# Altium footprint library Diode_SMD.PcbLib: 100 footprints (part 2 of 7)
Each footprint in its own frame and in the unit in brackets; x right, y up, seen from the top. Pads: shape width x height; smd on the part's side, far side on the other; paste and mask are expansions set on the pad; w line width, h text height; cw(c..) or ccw(c..) is an arc to the next point about the centre after c.
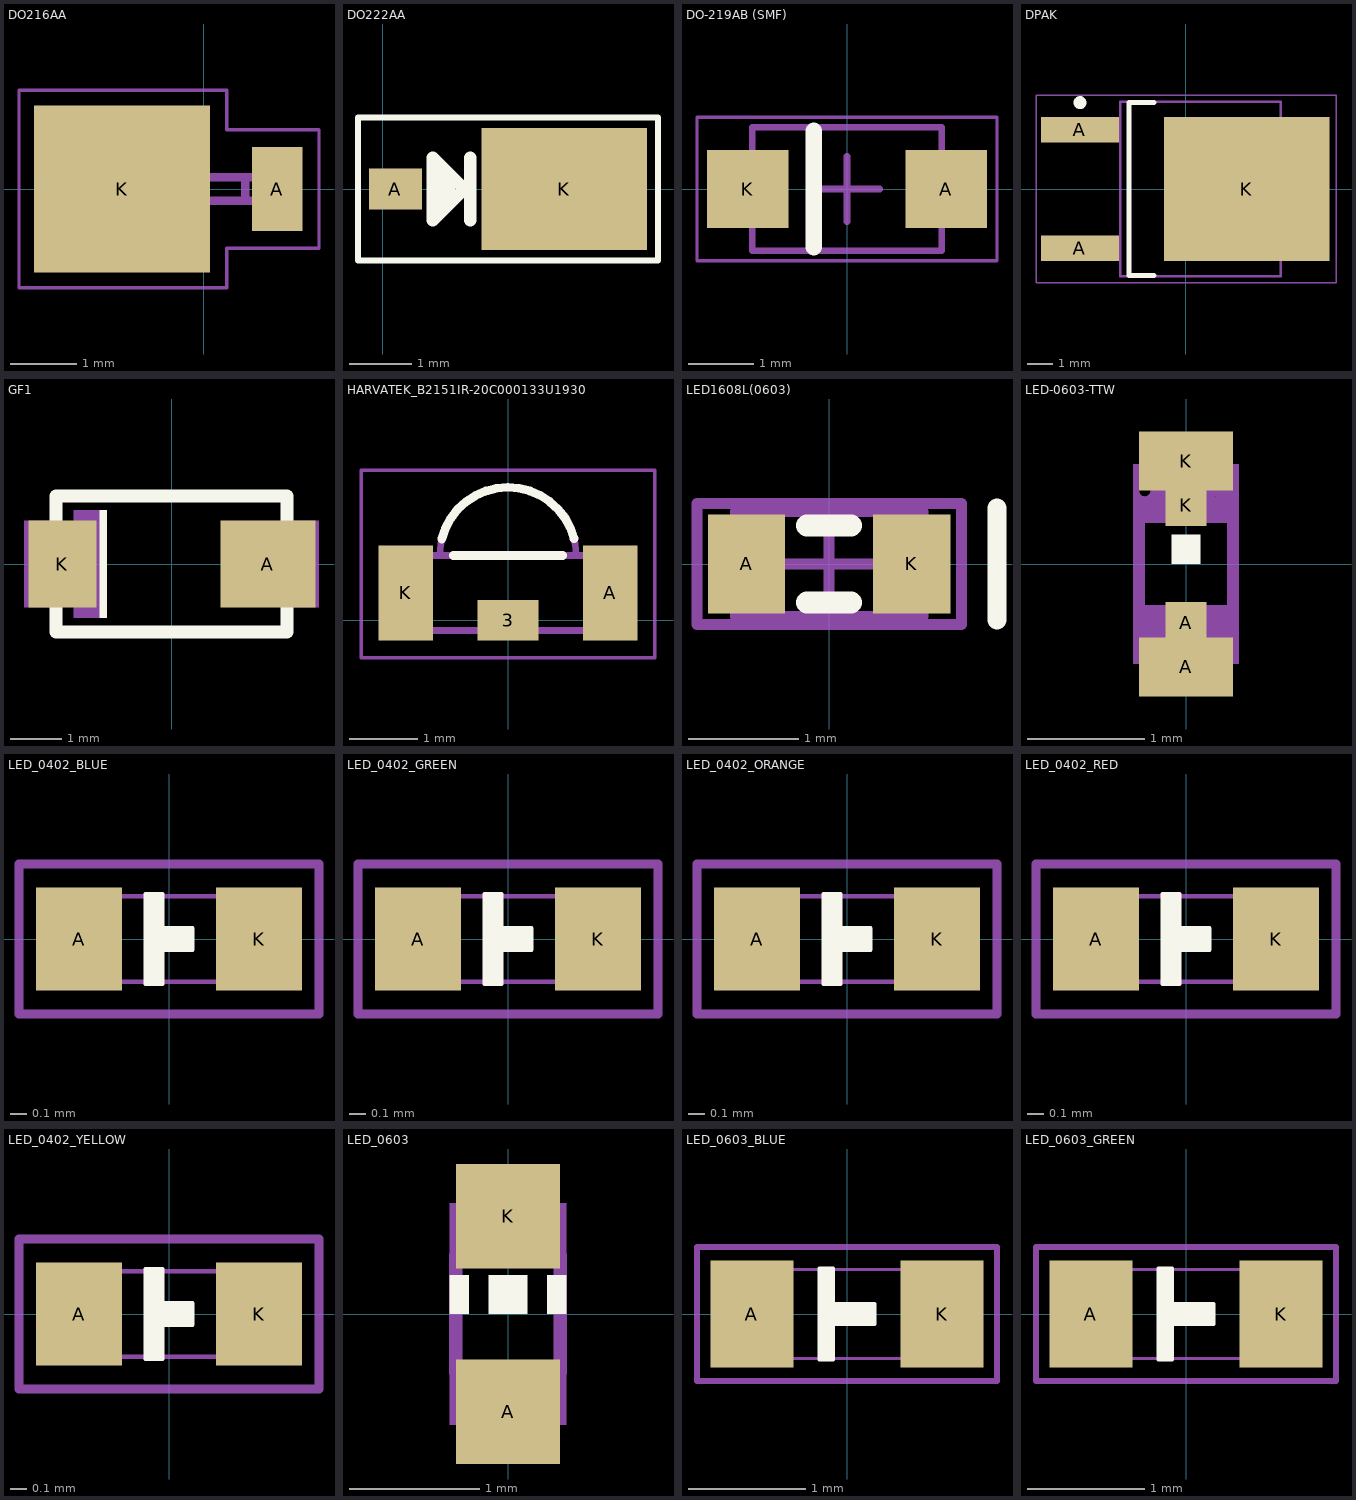
[diagram p1: the footprints below, top view; thin cyan lines are the x and y axes]

## DO216AA [mil]
pads (2):
  rect 30x50 smd: A(43.94,0)
  rect 105.12x100 smd: K(-48.62,0)
Mechanical 16:
  lines w5: -77.17,-16.73 -96.85,-16.73 -96.85,16.73 -77.17,16.73 ; -77.17,-16.73 -77.17,16.73 ; -77.17,-16.73 -77.17,-39.37 0,-39.37 0,-7.09 ; -77.17,16.73 -77.17,39.37 0,39.37 0,7.09 ; 0,-7.09 25,-7.09 ; 0,-7.09 0,7.09 ; 0,7.09 25,7.09 ; 25,-7.09 25,7.09 ; 25,-7.09 53.15,-7.09 53.15,7.09 25,7.09
Mechanical 27:
  lines w1.97: -110.24,-59.06 -110.24,59.06 13.78,59.06 13.78,35.43 68.9,35.43 68.9,-35.43 13.78,-35.43 13.78,-59.06 -110.24,-59.06
3D body "DO216AA.step": height 39.76, standoff 0, extent -95.05,-39.36 56.53,39.38

## DO222AA [mm] "DO216AA ST-MITE"
pads (2):
  rect 0.85x0.65 smd: A(0.2,0)
  rect 2.65x1.95 smd: K(2.9,0)
Top Overlay:
  lines w0.102: -0.4,-1.143 4.4,-1.143 4.4,1.143 -0.4,1.143 -0.4,-1.143
  lines w0.2: 0.9,-0.3 0.9,0.3 ; 1.05,-0.15 1.05,0.15 ; 1.4,-0.5 1.4,0.5 ; 0.8,-0.5 0.8,0.5 1.3,0 0.8,-0.5
3D body: height 0.7, standoff 0, extent 0.6,-0.25 0.725,0.25
3D body: height 0.7, standoff 0.5, extent 0.6,-0.25 1.363,0.25
3D body: height 0.2, standoff 0, extent -0.2,-0.25 0.6,0.25
3D body: height 0.2, standoff 0, extent 1.8,-0.9 4.1,0.9
3D body: height 1, standoff 0, extent 0.1,-0.95 3.9,0.95
3D body: height 0.5, standoff 0, extent 1.7,0.95 3.8,0.975
3D body: height 0.5, standoff 0, extent 1.7,-0.975 3.8,-0.95

## DO-219AB (SMF) [mm] "SODFL, 2-Leads, Body 1.80x3.70mm, IPC Medium Density"
height 1.08
pads (2):
  rect 1.25x1.2 smd: A(1.525,0) K(-1.525,0)
Top Overlay:
  lines w0.254: -0.508,-0.889 -0.508,0.889
Mechanical 13:
  lines w0.1: -1.45,-0.95 1.45,-0.95 1.45,0.95 -1.45,0.95 -1.45,-0.95
Mechanical 15:
  lines w0.05: -2.3,-1.1 2.3,-1.1 2.3,1.1 -2.3,1.1 -2.3,-1.1
  lines w0.1: -0.5,0 0.5,0 ; 0,-0.5 0,0.5
3D body "DO-219AB (SMF).step": height 1.08, standoff 0, extent -1.85,-0.95 1.85,0.95
3D body: height 1.09, standoff 0.09, extent -1.27,-0.762 -0.635,0.762

## DPAK [mm] "D-PAK, 3-Pads, Body 6.21x6.73mm (max), IPC Medium Density"
height 2.38
pads (3):
  rect 3x1 smd: A(-4.1,-2.29) A(-4.1,2.29)
  rect 6.4x5.55 smd: K(2.35,0)
Top Overlay:
  circle w0.25: c-4.1,3.34 r0.125
  lines w0.2: -1.25,-3.35 -2.2,-3.35 -2.2,3.35 -1.25,3.35
Mechanical 13:
  lines w0.1: -2.55,-3.375 3.67,-3.375 3.67,3.375 -2.55,3.375 -2.55,-3.375
Mechanical 15:
  lines w0.05: -5.8,-3.625 5.8,-3.625 5.8,3.625 -5.8,3.625 -5.8,-3.625
  lines w0.1: -0.5,0 0.5,0 ; 0,-0.5 0,0.5
3D body "DPAK.step": height 2.38, standoff 0, extent -4.6,-3.375 5.305,3.375

## GF1 [mm]
pads (2):
  rect 1.85x1.68 smd: A(1.87,0)
  rect 1.32x1.68 smd: K(-2.12,0)
Top Overlay:
  rectangle: -1.4,-1.05 -1.25,1.05
  lines w0.254: -2.24,-1.32 -2.24,1.32 2.24,1.32 2.24,-1.32 -2.24,-1.32
Mechanical 16:
  rectangle: -1.9,-1.05 -1.25,1.05
  rectangle: 2.34,-0.84 2.86,0.84
  rectangle: -2.86,-0.84 -2.32,0.84
3D body "User Library-DO-214BA.step": height 2.91, standoff -0.05, extent -2.625,-1.3 2.625,1.3

## HARVATEK_B2151IR-20C000133U1930 [mm] "2-SMD"
pads (3):
  rect 0.9x0.6 smd: 3(0,0)
  rect 0.8x1.4 smd: A(1.5,0.4) K(-1.5,0.4)
Top Overlay:
  lines w0.127: -0.97,1.193 cw(c0,0.95) 0.969,1.198 ; -0.8,0.95 0.8,0.95
Mechanical 1:
  lines w0.1: -1,0.95 cw(c0,0.95) 1,0.95 ; -1.5,-0.15 -1.5,0.95 1.5,0.95 1.5,-0.15 -1.5,-0.15
Mechanical 15:
  lines w0.05: -2.15,-0.55 2.15,-0.55 2.15,2.2 -2.15,2.2 -2.15,-0.55
3D body "Download_STP_WL-SISW-15411494AA570 (rev1).stp": height 1, standoff 0, extent -1.5,-0.15 1.5,1.843

## LED1608L(0603) [mm]
pads (2):
  rect 0.7x0.9 smd: A(-0.75,0) K(0.75,0)
Top Overlay:
  lines w0.175: 1.524,-0.508 1.524,0.508
  lines w0.2: -0.2,-0.35 0.2,-0.35 ; -0.2,0.35 0.2,0.35
Mechanical 13:
  lines w0.1: -0.85,-0.475 -0.85,0.475 0.85,0.475 0.85,-0.475 -0.85,-0.475
Mechanical 15:
  lines w0.1: -0.475,0 0.475,0 ; 0,-0.475 0,0.475 ; -1.2,-0.55 -1.2,0.55 1.2,0.55 1.2,-0.55 -1.2,-0.55
3D body "User Library-LED SMD0603.step": height 0.68, standoff 0, extent -0.8,-0.375 0.85,0.35

## LED-0603-TTW [mm]
pads (4):
  rect 0.8x0.5 smd: A(0,-0.875) K(0,0.875)
  rect 0.35x0.35 smd: A(0,-0.5) K(0,0.5)
Top Overlay:
  rectangle: -0.125,0 0.125,0.25
Top Solder:
  rectangle: -0.175,0.325 0.175,0.7
  rectangle: -0.4,0.625 0.4,1.125
  rectangle: -0.4,-1.125 0.4,-0.625
  rectangle: -0.175,-0.675 0.175,-0.325
Mechanical 16:
  circle w0.051: c-0.35,0.625 r0.075
  rectangle: -0.45,0.7 -0.25,0.85
  rectangle: -0.275,0.55 -0.225,0.6
  rectangle: -0.45,0.35 -0.4,0.725
  rectangle: 0.25,0.55 0.45,0.85
  rectangle: -0.45,0.35 0.45,0.575
  rectangle: -0.45,-0.85 -0.25,-0.35
  rectangle: 0.25,-0.85 0.45,-0.35
  rectangle: -0.275,-0.575 0.275,-0.35
  rectangle: -0.275,-0.65 -0.175,-0.55
  rectangle: 0.175,-0.65 0.275,-0.55
  lines w0.051: -0.275,-0.825 cw(c0,-0.825) 0.275,-0.825
  lines w0.102: -0.4,-0.35 -0.4,0.375 ; -0.3,0.825 ccw(c0,0.825) 0.3,0.825 ; 0.4,-0.35 0.4,0.35
3D body "User Library-LED SMD0603.step": height 0.68, standoff 0, extent -0.356,-0.825 0.369,0.825

## LED_0402_BLUE [mil]
height 31.5
pads (2):
  rect 20x24 smd: A(-21,0) K(21,0)
Top Overlay:
  region: -5.5,10.5 -1.5,10.5 -1.5,2.5 5.5,2.5 5.5,-2.5 -1.5,-2.5 -1.5,-10.5 -5.5,-10.5
  lines w1: -5.5,-10.5 -5.5,10.5 -1.5,10.5 -1.5,2.5 5.5,2.5 5.5,-2.5 -1.5,-2.5 -1.5,-10.5 -5.5,-10.5
Mechanical 13:
  lines w1: -12.8,-10 12.8,-10 ; -12.8,10 12.8,10 ; -20.67,-10.83 -20.67,10.83 -12.8,10.83 -12.8,-10.83 -20.67,-10.83 ; 12.8,-10.83 20.67,-10.83 20.67,10.83 12.8,10.83 12.8,-10.83
Mechanical 14:
  lines w2: -35,-17.5 35,-17.5 35,17.5 -35,17.5 -35,-17.5
3D body "User Library-led_0402LED0402 blue.STEP": height 17.72, standoff 0, extent -19.88,-9.84 19.89,9.85

## LED_0402_GREEN [mil]
height 31.5
pads (2):
  rect 20x24 smd: A(-21,0) K(21,0)
Top Overlay:
  region: -5.5,10.5 -1.5,10.5 -1.5,2.5 5.5,2.5 5.5,-2.5 -1.5,-2.5 -1.5,-10.5 -5.5,-10.5
  lines w1: -5.5,-10.5 -5.5,10.5 -1.5,10.5 -1.5,2.5 5.5,2.5 5.5,-2.5 -1.5,-2.5 -1.5,-10.5 -5.5,-10.5
Mechanical 13:
  lines w1: -12.8,-10 12.8,-10 ; -12.8,10 12.8,10 ; -20.67,-10.83 -12.8,-10.83 -12.8,10.83 -20.67,10.83 -20.67,-10.83 ; 12.8,-10.83 12.8,10.83 20.67,10.83 20.67,-10.83 12.8,-10.83
Mechanical 14:
  lines w2: -35,-17.5 35,-17.5 35,17.5 -35,17.5 -35,-17.5
3D body "User Library-led_0402LED0402 green.STEP": height 17.72, standoff 0, extent -19.88,-9.84 19.89,9.85

## LED_0402_ORANGE [mil]
height 31.5
pads (2):
  rect 20x24 smd: A(-21,0) K(21,0)
Top Overlay:
  region: -5.5,10.5 -1.5,10.5 -1.5,2.5 5.5,2.5 5.5,-2.5 -1.5,-2.5 -1.5,-10.5 -5.5,-10.5
  lines w1: -5.5,-10.5 -5.5,10.5 -1.5,10.5 -1.5,2.5 5.5,2.5 5.5,-2.5 -1.5,-2.5 -1.5,-10.5 -5.5,-10.5
Mechanical 13:
  lines w1: -12.8,-10 12.8,-10 ; -12.8,10 12.8,10 ; -20.67,-10.83 -12.8,-10.83 -12.8,10.83 -20.67,10.83 -20.67,-10.83 ; 12.8,-10.83 12.8,10.83 20.67,10.83 20.67,-10.83 12.8,-10.83
Mechanical 14:
  lines w2: -35,-17.5 -35,17.5 35,17.5 35,-17.5 -35,-17.5
3D body "User Library-led_0402LED0402 orange.STEP": height 17.72, standoff 0, extent -19.88,-9.84 19.89,9.85

## LED_0402_RED [mil]
height 31.5
pads (2):
  rect 20x24 smd: A(-21,0) K(21,0)
Top Overlay:
  region: -5.5,10.5 -1.5,10.5 -1.5,2.5 5.5,2.5 5.5,-2.5 -1.5,-2.5 -1.5,-10.5 -5.5,-10.5
  lines w1: -5.5,-10.5 -5.5,10.5 -1.5,10.5 -1.5,2.5 5.5,2.5 5.5,-2.5 -1.5,-2.5 -1.5,-10.5 -5.5,-10.5
Mechanical 13:
  lines w1: -12.8,-10 12.8,-10 ; -12.8,10 12.8,10 ; -20.67,-10.83 -12.8,-10.83 -12.8,10.83 -20.67,10.83 -20.67,-10.83 ; 12.8,-10.83 12.8,10.83 20.67,10.83 20.67,-10.83 12.8,-10.83
Mechanical 14:
  lines w2: -35,-17.5 -35,17.5 35,17.5 35,-17.5 -35,-17.5
3D body "User Library-led_0402.STEP": height 17.72, standoff 0, extent -19.87,-9.84 19.89,9.85

## LED_0402_YELLOW [mil]
height 31.5
pads (2):
  rect 20x24 smd: A(-21,0) K(21,0)
Top Overlay:
  region: -5.5,10.5 -1.5,10.5 -1.5,2.5 5.5,2.5 5.5,-2.5 -1.5,-2.5 -1.5,-10.5 -5.5,-10.5
  lines w1: -5.5,-10.5 -1.5,-10.5 -1.5,-2.5 5.5,-2.5 5.5,2.5 -1.5,2.5 -1.5,10.5 -5.5,10.5 -5.5,-10.5
Mechanical 13:
  lines w1: -12.8,-10 12.8,-10 ; -12.8,10 12.8,10 ; -20.67,-10.83 -12.8,-10.83 -12.8,10.83 -20.67,10.83 -20.67,-10.83 ; 12.8,-10.83 12.8,10.83 20.67,10.83 20.67,-10.83 12.8,-10.83
Mechanical 14:
  lines w2: -35,-17.5 35,-17.5 35,17.5 -35,17.5 -35,-17.5
3D body "User Library-led_0402LED0402 yellow.STEP": height 17.72, standoff 0, extent -19.88,-9.84 19.89,9.85

## LED_0603 [mil]
pads (2):
  rect 31.5x31.5 smd: A(0,-29.53) K(0,29.53)
Top Overlay:
  rectangle: -17.72,0 -11.81,11.81
  rectangle: 11.81,0 17.72,11.81
  rectangle: -5.91,0 5.91,11.81
Mechanical 16:
  rectangle: -17.72,17.72 17.72,33.46
  rectangle: -17.72,-33.46 17.72,-17.72
  lines w4: -15.75,-17.72 -15.75,17.72 ; 15.75,-17.72 15.75,17.72
3D body "User Library-LED SMD0603.step": height 26.76, standoff 0.19, extent -14.54,-32.48 14,32.48

## LED_0603_BLUE [mil]
height 31.5
pads (2):
  rect 28x36 smd: A(-32,0) K(32,0)
Top Overlay:
  region: -9.5,15.5 -4.5,15.5 -4.5,3.5 9.5,3.5 9.5,-3.5 -4.5,-3.5 -4.5,-15.5 -9.5,-15.5
  lines w1: -9.5,-15.5 -9.5,15.5 -4.5,15.5 -4.5,3.5 9.5,3.5 9.5,-3.5 -4.5,-3.5 -4.5,-15.5 -9.5,-15.5
Mechanical 13:
  lines w1: -19,-15 19,-15 ; -18.99,15 19.01,15 ; -33,-17 -33,17 -19,17 -19,-17 -33,-17 ; 19.01,-17 33.01,-17 33.01,17 19.01,17 19.01,-17
Mechanical 14:
  lines w2: -50.5,-22.5 -50.5,22.5 50.5,22.5 50.5,-22.5 -50.5,-22.5
3D body "User Library-led_0603LED0603 blue.STEP": height 23.62, standoff 0, extent -31.88,-15.74 31.9,15.75

## LED_0603_GREEN [mil]
height 31.5
pads (2):
  rect 28x36 smd: A(-32,0) K(32,0)
Top Overlay:
  region: -9.5,15.5 -4.5,15.5 -4.5,3.5 9.5,3.5 9.5,-3.5 -4.5,-3.5 -4.5,-15.5 -9.5,-15.5
  lines w1: -9.5,-15.5 -4.5,-15.5 -4.5,-3.5 9.5,-3.5 9.5,3.5 -4.5,3.5 -4.5,15.5 -9.5,15.5 -9.5,-15.5
Mechanical 13:
  lines w1: -19,-15 19,-15 ; -18.99,15 19.01,15 ; -33,-17 -33,17 -19,17 -19,-17 -33,-17 ; 19.01,-17 33.01,-17 33.01,17 19.01,17 19.01,-17
Mechanical 14:
  lines w2: -50.5,-22.5 50.5,-22.5 50.5,22.5 -50.5,22.5 -50.5,-22.5
3D body "User Library-led_0603LED0603 green.STEP": height 23.62, standoff 0, extent -31.89,-15.74 31.9,15.75